# EAGLE library part DCDC_UEI15 (library carrilib)
15W DC/DC Adjustable Converter Manufacturer: Murata Part Number: UIE15 Series DCDC
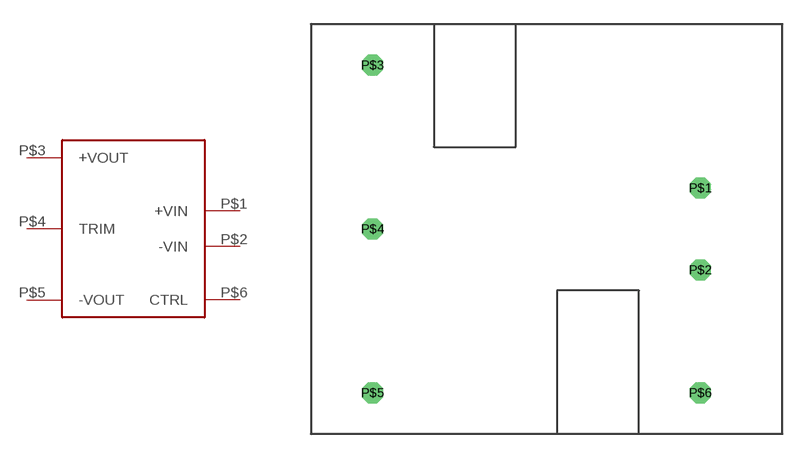
[diagram p20: symbol with the pads of UEI15; footprint UEI15]

Designator prefix -

## DCDC_UEI15  [UEI15]
P$1  +VIN
P$2  -VIN
P$3  +VOUT
P$4  TRIM
P$5  -VOUT
P$6  CTRL

## Footprint UEI15 (pad centres in mm)
drill 0.8 octagon: P$1 10.16,2.54; P$2 10.16,-2.54; P$3 -10.16,10.16; P$4 -10.16,0; P$5 -10.16,-10.16; P$6 10.16,-10.16